# Altium integrated library NJVMJD41CT4G.IntLib: 2 symbols
Pins are listed as number, name and electrical type; pins without a type are passive.

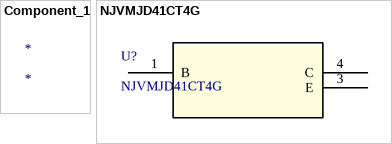
[diagram p0: symbols Component_1 to NJVMJD41CT4G]

## Component_1
designator *

## NJVMJD41CT4G
designator U?
No Description Available; Mfr_Name: onsemi; Copyright: Copyright (C) 2023 Ultra Librarian. All rights reserved.; Manufacturer_Part_Number: NJVMJD41CT4G; RefDes: RefDes; Type: DEV
footprint DPAK-4_6P22X6P73_ONS
pins: 1 B, 3 E, 4 C